# Altium footprint library NEW_PCB_2021-12-20.PcbLib: 1 footprints
Each footprint in its own frame and in the unit in brackets; x right, y up, seen from the top. Pads: shape width x height; smd on the part's side, far side on the other; paste and mask are expansions set on the pad; w line width, h text height; cw(c..) or ccw(c..) is an arc to the next point about the centre after c.
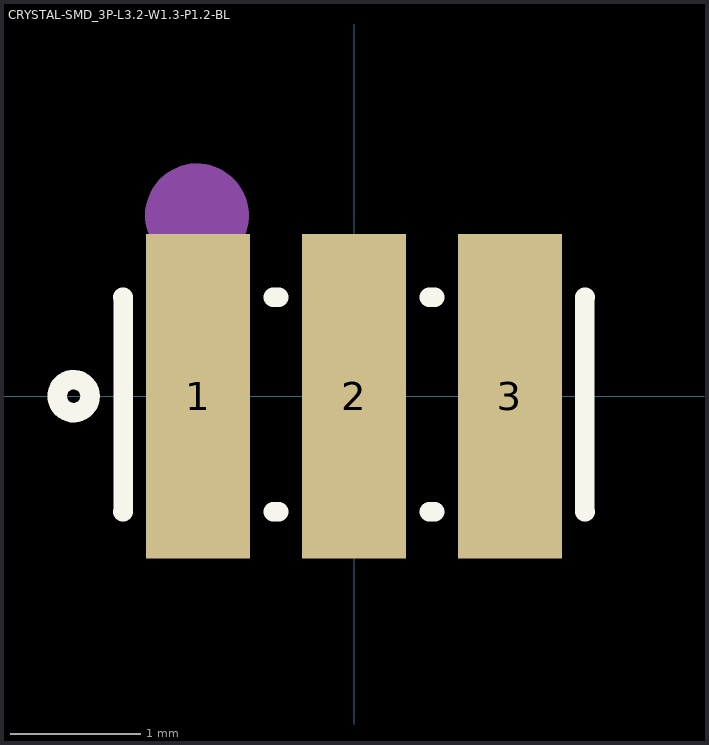
[diagram p0: the footprint, top view; thin cyan lines are the x and y axes]

## CRYSTAL-SMD_3P-L3.2-W1.3-P1.2-BL [mm]
pads (3):
  rect 0.8x2.5 smd: 1(-1.2,0) 2(0,0) 3(1.2,0)
Top Overlay:
  circle w0.15: c-2.159,0 r0.127
  lines w0.15: -1.779,-0.889 -1.778,-0.889 -1.778,0.762 -1.779,0.762 ; -0.621,-0.889 -0.579,-0.889 ; -0.621,0.762 -0.579,0.762 ; 0.579,-0.889 0.621,-0.889 ; 0.579,0.762 0.621,0.762 ; 1.779,-0.889 1.778,-0.889 1.778,0.762 1.779,0.762
Mechanical 15:
  circle w0.4: c-1.209,1.392 r0.2